# Altium integrated library adafruit_power_1000c.IntLib: 1 symbol
Pins are listed as number, name and electrical type; pins without a type are passive.

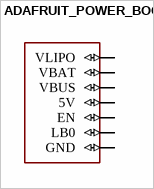
[diagram p0: symbol ADAFRUIT_POWER_BOOST]

## ADAFRUIT_POWER_BOOST
designator ?
GateName_1: G$1; SymbolName_1: ADAFRUIT_POWER_BOOST; LibraryName: adafruit_power_1000c; DeviceSetName: ADAFRUIT_POWER_BOOST; Package: ADAFRUIT_POWER_BOOST_1000C
footprint ADAFRUIT_POWER_BOOST_1000C
pins: 5V (io), EN (io), GND@0 GND@1 GND (io), LB0 (io), VBAT (io), VBUS (io), VLIPO (io)